# Altium footprint library XTD Module.PcbLib: 62 footprints (part 1 of 4)
Each footprint in its own frame and in the unit in brackets; x right, y up, seen from the top. Pads: shape width x height; smd on the part's side, far side on the other; paste and mask are expansions set on the pad; w line width, h text height; cw(c..) or ccw(c..) is an arc to the next point about the centre after c.
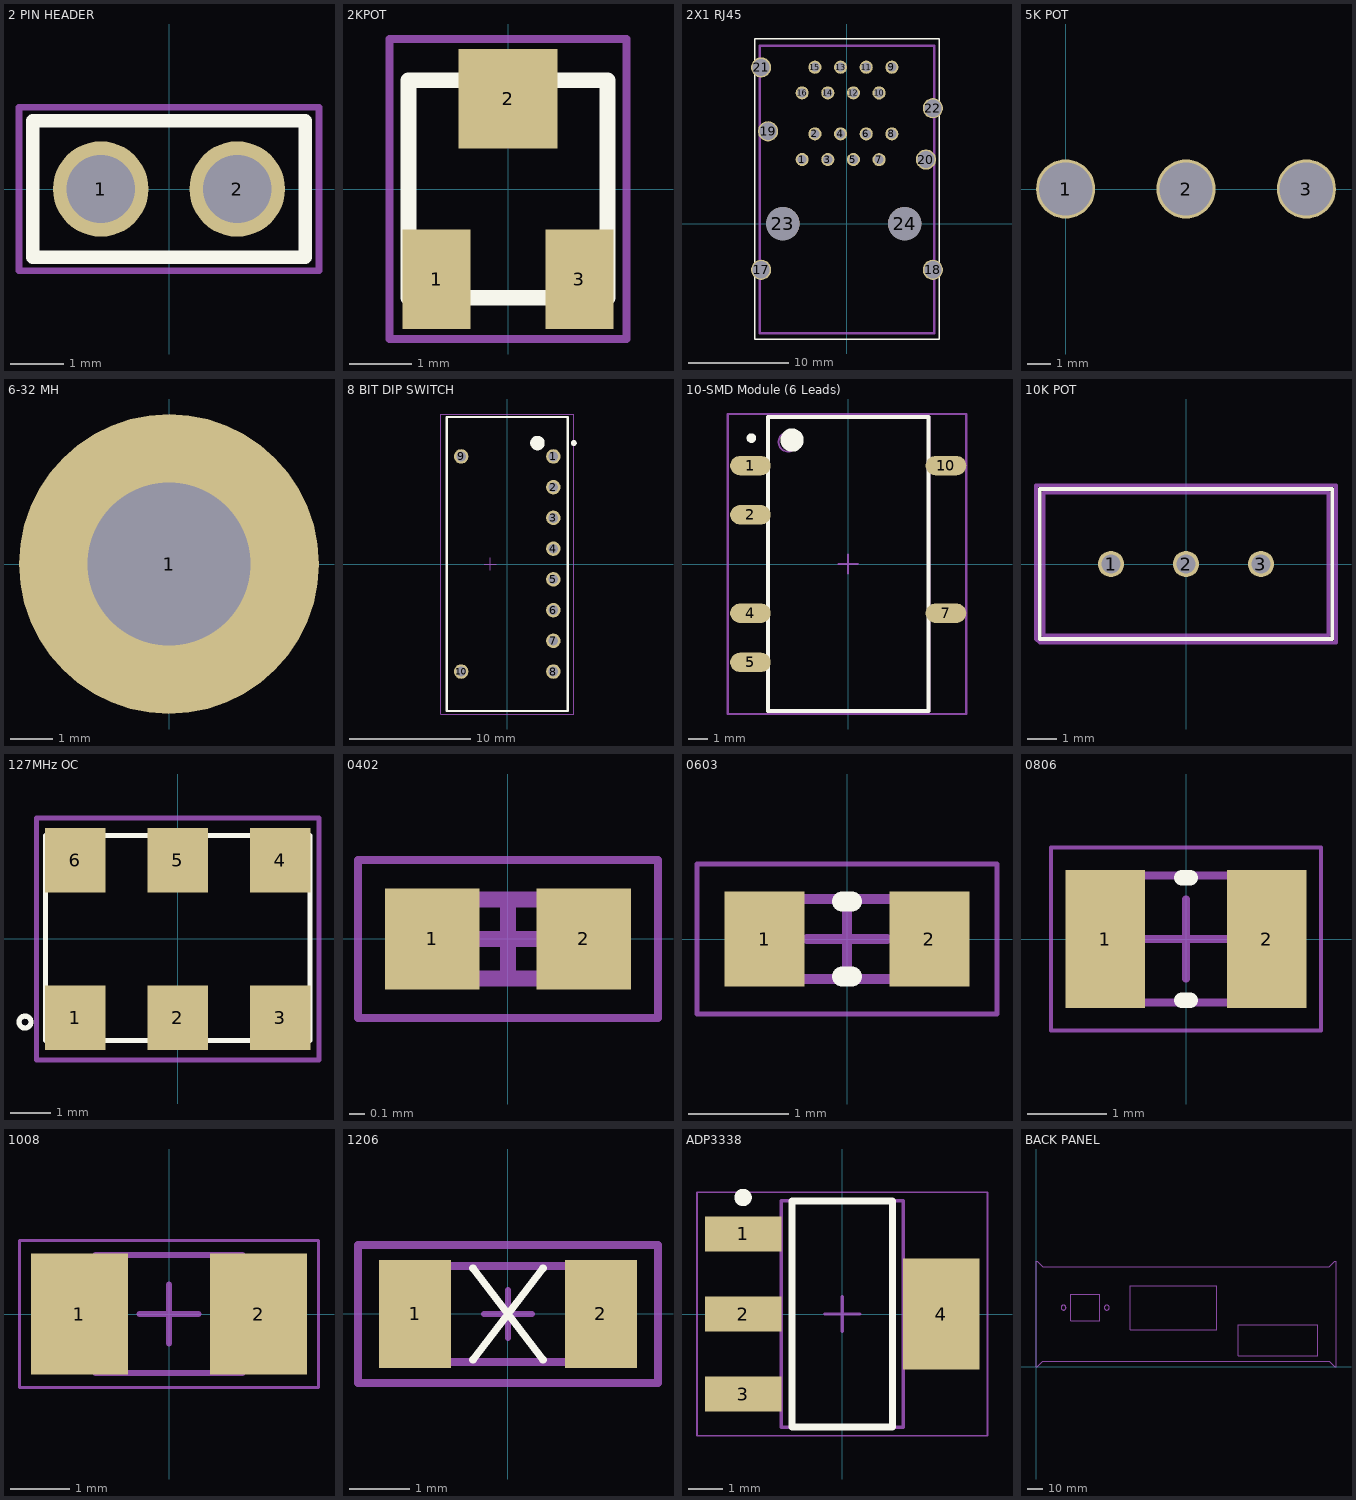
[diagram p0: the footprints below, top view; thin cyan lines are the x and y axes]

## 2 PIN HEADER [mil]
pads (2):
  round 70 hole 50: 1(-50,0) 2(50,0)
Top Overlay:
  lines w10: -100,-50 -100,50 100,50 100,0 100,-50 -100,-50
Mechanical 15:
  lines w5: -110,-60 110,-60 110,60 -110,60 -110,-60
3D body: height 100, standoff 0, extent -100,-50 100,50
3D body: height 470, standoff -100, extent -62.5,-12.5 -37.5,12.5
3D body: height 470, standoff -100, extent 37.5,-12.5 62.5,12.5

## 2KPOT [mm] "TRIMMER 2K OHM 0.125W SMD"
height 2.77
pads (3):
  rect 1.1x1.6 smd: 1(-1.15,-1.45) 3(1.15,-1.45)
  rect 1.6x1.6 smd: 2(0,1.45)
Top Overlay:
  lines w0.254: -1.6,-1.75 1.6,-1.75 1.6,1.75 -1.6,1.75 -1.6,-1.75
Mechanical 15:
  lines w0.127: -1.905,-2.413 -1.905,2.032 -1.905,2.413 -1.524,2.413 1.905,2.413 1.905,-2.413 -1.905,-2.413
3D body: height 2.77, standoff 0, extent -1.6,-1.75 1.6,1.75

## 2X1 RJ45 [mm] "DOUBLE_RIGHT ANGLE_RJ-45"
height 25.14
pads (24):
  round 1.3 hole 0.9: 1(-4.445,6.35) 2(-3.175,8.89) 3(-1.905,6.35) 4(-0.635,8.89) 5(0.635,6.35) 6(1.905,8.89) 7(3.175,6.34) 8(4.445,8.89) 9(4.445,15.494) 10(3.175,12.944) 11(1.905,15.494) 12(0.635,12.954) 13(-0.635,15.494) 14(-1.905,12.954) 15(-3.175,15.494) 16(-4.445,12.954)
  round 2 hole 1.7: 17(-8.509,-4.572) 18(8.509,-4.572) 19(-7.823,9.144) 20(7.823,6.35) 21(-8.509,15.469) 22(8.509,11.43)
  round 3.302 hole 3.302 unplated: 23(-6.35,0) 24(5.715,0)
Top Overlay:
  lines w0.127: -9.144,-11.43 -9.144,6.415 -9.144,18.288 2.729,18.288 9.144,18.288 9.144,-11.43 -9.144,-11.43
Bottom Overlay:
  text "2" at 2.54,11.43 h0.89
  text "4" at 0,11.684 h0.89
  text "6" at -2.54,11.684 h0.89
  text "8" at -5.334,11.684 h0.89
  text "1" at 5.334,16.256 h0.89
  text "3" at 3.048,16.256 h0.89
  text "5" at 0.508,16.256 h0.89
  text "7" at -2.286,16.256 h0.89
  text "8" at 5.588,9.652 h0.89
  text "7" at 2.54,4.826 h0.89
  text "6" at 3.048,9.652 h0.89
  text "5" at 0,4.826 h0.89
  text "4" at 0.508,9.652 h0.89
  text "3" at -2.54,4.826 h0.89
  text "2" at -2.032,9.652 h0.89
  text "1" at -5.08,4.826 h0.89
Mechanical 13:
  lines w0.254: -8.636,-10.871 8.636,-10.871 8.636,17.628 -8.636,17.628 -8.636,-10.871
  text "BOTTOM" at -3.81,19.558 h1.27
3D body: height 3.5, standoff 0, extent 7.659,-5.422 9.359,-3.722
3D body: height 3.5, standoff 0, extent -8.673,8.294 -6.973,9.994
3D body: height 3.5, standoff 0, extent 6.973,5.5 8.673,7.2
3D body: height 3.5, standoff 0, extent -9.359,14.619 -7.659,16.319
3D body: height 3.2, standoff 0, extent 2.725,12.494 3.623,13.394
3D body: height 3.2, standoff 0, extent 3.995,15.044 4.893,15.944
3D body: height 3.2, standoff 0, extent 0.185,12.504 1.083,13.404
3D body: height 3.2, standoff 0, extent 1.455,15.044 2.353,15.943
3D body: height 3.2, standoff 0, extent -2.355,12.504 -1.457,13.404
3D body: height 3.2, standoff 0, extent -1.085,15.044 -0.187,15.943
3D body: height 3.2, standoff 0, extent -4.895,12.504 -3.997,13.404
3D body: height 3.2, standoff 0, extent -3.625,15.044 -2.727,15.943
3D body: height 3.5, standoff 0, extent -9.359,-5.422 -7.659,-3.722
3D body: height 3.2, standoff 0, extent -3.625,8.44 -2.727,9.339
3D body: height 3.2, standoff 0, extent -4.895,5.9 -3.997,6.8
3D body: height 3.2, standoff 0, extent -1.085,8.44 -0.187,9.339
3D body: height 3.2, standoff 0, extent -2.355,5.9 -1.457,6.8
3D body: height 3.2, standoff 0, extent 1.455,8.44 2.353,9.339
3D body: height 3.2, standoff 0, extent 0.185,5.9 1.083,6.8
3D body: height 3.2, standoff 0, extent 3.995,8.44 4.893,9.34
3D body: height 3.2, standoff 0, extent 2.725,5.89 3.623,6.79
3D body: height 3.5, standoff 0, extent 7.659,10.58 9.359,12.28
3D body: height 3.5, standoff 0, extent -7.948,-1.599 -4.75,1.6
3D body: height 3.5, standoff 0, extent 4.117,-1.599 7.315,1.6
3D body: height 25.15, standoff 0, extent -8.636,-10.871 8.636,17.628

## 5K POT [mm] "POT 5K OHM 2W WIREWOUND LINEAR"
height 22.25
pads (3):
  round 2.5 hole 2.25: 1(0,0) 2(5.08,0) 3(10.16,0)
3D body: height 22.25, standoff 0.1, extent -2.413,-11.181 16.637,11.182
3D body: height 16.27, standoff 5.97, extent 16.708,-5.149 24.638,5.149
3D body: height 14.3, standoff 7.94, extent 24.638,-3.055 37.338,3.302
3D body: height 0, standoff -3.3, extent -0.25,-0.8 0.25,0.8
3D body: height 0, standoff -3.3, extent 4.83,-0.8 5.33,0.8
3D body: height 0, standoff -3.3, extent 9.91,-0.8 10.41,0.8

## 6-32 MH [mil] "6-32 MOUNTING HOLE"
pads (1):
  round 280 hole 152: 1(0,0)

## 8 BIT DIP SWITCH [mm] "24.30mm X 10mm X 6.70mm PITHC 2.54mm"
height 6.7
pads (10):
  round 1.2 hole 0.8: 1(3.81,8.89) 2(3.81,6.35) 3(3.81,3.81) 4(3.81,1.27) 5(3.81,-1.27) 6(3.81,-3.81) 7(3.81,-6.35) 8(3.81,-8.89) 9(-3.81,8.89) 10(-3.81,-8.89)
Top Overlay:
  circle w0.6: c2.5,10 r0.3
  circle w0.25: c5.5,10 r0.125
  lines w0.2: -5,-12.15 5,-12.15 5,12.15 -5,12.15 -5,-12.15
Mechanical 13:
  circle w0.1: c2.5,10 r0.5
  lines w0.1: -5,-12.15 5,-12.15 5,12.15 -5,12.15 -5,-12.15
Mechanical 15:
  lines w0.05: -5.5,-12.4 5.5,-12.4 5.5,12.4 -5.5,12.4 -5.5,-12.4
  lines w0.1: -1.915,0 -0.915,0 ; -1.415,-0.5 -1.415,0.5
3D body: height 3.2, standoff 0, extent 3.685,-6.6 3.935,-6.1
3D body: height 3.2, standoff 0, extent 3.685,-1.52 3.935,-1.02
3D body: height 3.2, standoff 0, extent 3.685,-9.14 3.935,-8.64
3D body: height 3.2, standoff 0, extent 3.685,-4.06 3.935,-3.56
3D body: height 3.2, standoff 0, extent -3.935,-9.14 -3.685,-8.64
3D body: height 3.2, standoff 0, extent 3.685,1.02 3.935,1.52
3D body: height 3.2, standoff 0, extent 3.685,3.56 3.935,4.06
3D body: height 3.2, standoff 0, extent 3.685,6.1 3.935,6.6
3D body: height 3.2, standoff 0, extent 3.685,8.64 3.935,9.14
3D body: height 3.2, standoff 0, extent -3.935,8.64 -3.685,9.14
3D body: height 6.7, standoff 0, extent -5,-12.15 5,12.15

## 10-SMD Module (6 Leads) [mm] "0.60\" L x 0.33\" W x 0.29\" H (15.2mm x 8.3mm x 7.3mm)"
height 7.3
pads (6):
  oval 2.1x1 smd: 1(-5.05,5.08) 2(-5.05,2.54) 4(-5.05,-2.54) 5(-5.05,-5.08) 7(5.05,-2.54) 10(5.05,5.08)
Top Overlay:
  circle w0.25: c-5,6.5 r0.125
  circle w0.6: c-2.9,6.4 r0.3
  lines w0.2: -4.15,-7.6 -4.15,7.6 ; -4.1,-7.6 4.1,-7.6 ; -4.1,7.6 4.1,7.6 ; 4.15,-7.6 4.15,7.6
Mechanical 13:
  circle w0.1: c-3.1,6.3 r0.5
  lines w0.1: -4.2,-7.6 -4.2,7.6 4.2,7.6 4.2,-7.6 -4.2,-7.6
Mechanical 15:
  lines w0.1: -0.5,0 0.5,0 ; 0,-0.5 0,0.5
  lines w0.127: -6.223,-7.747 -6.223,7.747 6.096,7.747 6.096,-7.747 -6.223,-7.747
3D body: height 7.3, standoff 0.15, extent -4.1,-7.6 4.2,7.6

## 10K POT [mil] "TRIMMER 10K OHM 0.5W PC PIN"
height 393.7
pads (3):
  round 35 hole 25: 1(-100,0) 2(0,0) 3(100,0)
Top Overlay:
  lines w5: -195,-100 -195,100 195,100 195,-100 -195,-100
Mechanical 13:
  lines w5: -190,-95 -190,40 -190,95 190,95 190,-95 -190,-95
Mechanical 15:
  lines w5: -200,-100 -200,105 200,105 200,-105 -195,-105 -200,-100
3D body: height 455, standoff 395, extent -182.95,-87.98 -97,-2
3D body: height 395, standoff 0, extent -190,-95 190,95
3D body: height 250, standoff 0, extent 90.09,-9.97 110.01,9.99
3D body: height 250, standoff 0, extent -9.91,-9.97 10.01,9.99
3D body: height 250, standoff 0, extent -109.91,-9.97 -89.99,9.99

## 127MHz OC [mm]
pads (6):
  rect 1.5x1.6 smd: 1(-2.54,-1.95) 2(0,-1.95) 3(2.54,-1.95) 4(2.54,1.95) 5(0,1.95) 6(-2.54,1.95)
Top Overlay:
  circle w0.127: c-3.785,-2.057 r0.148
  lines w0.127: -3.277,-2.515 -3.277,2.565 3.277,2.565 3.277,-2.515 -3.277,-2.515
Mechanical 15:
  lines w0.127: -3.5,-3 3.5,-3 3.5,3 -3.5,3 -3.5,-3
3D body: height 2, standoff 0, extent -3.275,-2.525 3.3,2.575

## 0402 [mm] "0.039\" L x 0.020\" W (1.00mm x 0.50mm)"
height 0.5
pads (2):
  rect 0.6x0.64 smd: 1(-0.48,0) 2(0.48,0)
Mechanical 13:
  lines w0.1: -0.5,-0.25 -0.5,0.25 0.5,0.25 0.5,-0.25 -0.5,-0.25
Mechanical 15:
  lines w0.05: -0.95,-0.5 -0.95,0.5 0.95,0.5 0.95,-0.5 -0.95,-0.5
  lines w0.1: -0.25,0 0.25,0 ; 0,-0.25 0,0.25
3D body: height 0.5, standoff 0, extent -0.25,-0.25 0.25,0.25
3D body: height 0.5, standoff 0, extent -0.5,-0.25 -0.25,0.25
3D body: height 0.5, standoff 0, extent 0.25,-0.25 0.5,0.25

## 0603 [mm] "0.063\" L x 0.031\" W (1.60mm x 0.80mm)"
height 0.5
pads (2):
  rect 0.8x0.95 smd: 1(-0.825,0) 2(0.825,0)
Top Overlay:
  lines w0.2: -0.05,-0.375 0.05,-0.375 ; -0.05,0.375 0.05,0.375
Mechanical 13:
  lines w0.1: -0.8,-0.4 -0.8,0.4 0.8,0.4 0.8,-0.4 -0.8,-0.4
Mechanical 15:
  lines w0.05: -1.5,-0.75 -1.5,0.75 1.5,0.75 1.5,-0.75 -1.5,-0.75
  lines w0.1: -0.4,0 0.4,0 ; 0,-0.4 0,0.4
3D body: height 0.5, standoff 0, extent -0.5,-0.4 0.5,0.4
3D body: height 0.5, standoff 0, extent -0.8,-0.4 -0.5,0.4
3D body: height 0.5, standoff 0, extent 0.5,-0.4 0.8,0.4

## 0806 [mm] "0.079\" L x 0.063\" W (2.00mm x 1.60mm)"
height 1
pads (2):
  rect 1x1.74 smd: 1(-1.016,0) 2(1.016,0)
Top Overlay:
  lines w0.2: -0.05,-0.77 0.05,-0.77 ; -0.05,0.77 0.05,0.77
Mechanical 13:
  lines w0.1: -1,-0.8 -1,0.8 1,0.8 1,-0.8 -1,-0.8
Mechanical 15:
  lines w0.05: -1.7,-1.15 -1.7,1.15 1.7,1.15 1.7,-1.15 -1.7,-1.15
  lines w0.1: -0.5,0 0.5,0 ; 0,-0.5 0,0.5
3D body: height 1, standoff 0, extent -0.5,-0.8 0.5,0.8
3D body: height 1, standoff 0, extent -1,-0.8 -0.5,0.8
3D body: height 1, standoff 0, extent 0.5,-0.8 1,0.8

## 1008 [mm] "0.098\" L x 0.079\" W (2.50mm x 2.00mm)"
height 1
pads (2):
  rect 1.65x2.05 smd: 1(-1.524,0) 2(1.524,0)
Mechanical 13:
  lines w0.1: -1.25,-1 -1.25,1 1.25,1 1.25,-1 -1.25,-1
Mechanical 15:
  lines w0.05: -2.54,-1.25 -2.54,1.25 2.54,1.25 2.54,-1.25 -2.54,-1.25
  lines w0.1: -0.5,0 0.5,0 ; 0,-0.5 0,0.5
3D body: height 1, standoff 0, extent -1.25,-1 1.25,1

## 1206 [mm] "Chip capacitor 1206"
height 1.3
pads (2):
  rect 1.2x1.8 smd: 1(-1.55,0) 2(1.55,0)
Top Overlay:
  lines w0.127: -0.584,-0.762 0.584,0.762 ; -0.584,0.762 0.584,-0.762
Mechanical 13:
  lines w0.127: -1.6,-0.8 1.6,-0.8 1.6,0.8 -1.6,0.8 -1.6,-0.8
Mechanical 15:
  lines w0.102: -0.4,0 0.4,0 ; 0,-0.4 0,0.4
  lines w0.127: -2.5,-1.15 -2.5,1.15 2.5,1.15 2.5,-1.15 -2.5,-1.15
3D body: height 1.35, standoff 0, extent 1.1,-0.8 1.6,0.8
3D body: height 1.35, standoff 0, extent -1.6,-0.8 -1.1,0.8
3D body: height 1.35, standoff 0, extent -1.1,-0.8 1.1,0.8

## ADP3338 [mm] "SOT223, 4-Leads, Body 6.50x7.00mm (avg), Pitch 2.30mm, IPC Medium Density"
height 1.6
pads (4):
  rect 2.2x1 smd: 1(-2.85,2.3) 2(-2.85,0) 3(-2.85,-2.3)
  rect 2.2x3.2 smd: 4(2.85,0)
Top Overlay:
  circle w0.25: c-2.85,3.35 r0.125
  lines w0.2: -1.45,-3.25 1.45,-3.25 1.45,3.25 -1.45,3.25 -1.45,-3.25
Mechanical 13:
  lines w0.1: -1.75,-3.25 1.75,-3.25 1.75,3.25 -1.75,3.25 -1.75,-3.25
Mechanical 15:
  lines w0.05: -4.175,-3.5 4.175,-3.5 4.175,3.5 -4.175,3.5 -4.175,-3.5
  lines w0.1: -0.5,0 0.5,0 ; 0,-0.5 0,0.5
3D body: height 1.6, standoff 0.02, extent -1.75,-3.25 1.75,3.25

## BACK PANEL [mm]
Mechanical 13:
  circle w0.025: c45.72,38.1 r1.6
  circle w0.025: c17.78,38.1 r1.6
  lines w0.127: 0,0 0.94,0 4.445,3.505 189.23,3.505 192.735,0 193.675,0 193.675,67.945 192.735,67.945 189.23,64.44 4.445,64.44 0.94,67.945 0,67.945 0,0 ; 22.428,29.642 22.428,46.584 41.072,46.584 41.072,29.642 22.428,29.642 ; 60.96,23.876 60.96,52.324 116.84,52.324 116.84,23.876 60.96,23.876 ; 130.632,6.909 130.632,26.975 181.94,26.975 181.94,6.909 130.632,6.909
  text "1120mils" at 61.951,42.52 h1.27
  text "2200mils" at 85.573,49.606 h1.27
  text "PWR" at 85.573,38.278 h1.27
  text "BD:125mils" at 46.482,40.259 h1.27
  text "667mils" at 22.809,42.596 h1.27
  text "734mils" at 27.61,44.755 h1.27
  text "USB" at 29.159,41.021 h1.27